# Altium schematic symbol library BQ.SCHLIB: 1 symbol
Pins are listed as number, name and electrical type; pins without a type are passive.

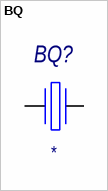
[diagram p0: symbol BQ]

## BQ
designator BQ?
Value: *
pins: 1, 2